# Altium footprint library S2B-PH-SM4-TB.PcbLib: 1 footprints
Each footprint in its own frame and in the unit in brackets; x right, y up, seen from the top. Pads: shape width x height; smd on the part's side, far side on the other; paste and mask are expansions set on the pad; w line width, h text height; cw(c..) or ccw(c..) is an arc to the next point about the centre after c.
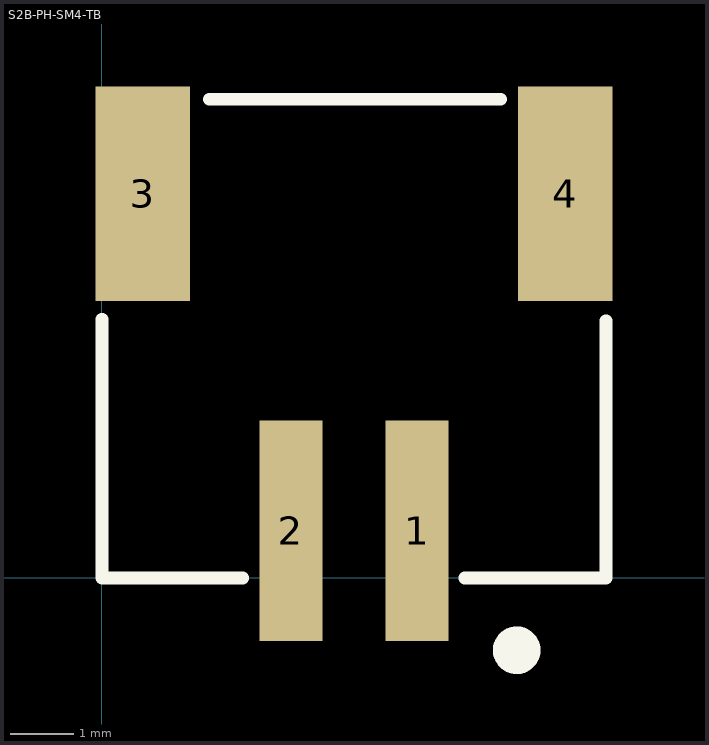
[diagram p0: the footprint, top view; thin cyan lines are the x and y axes]

## S2B-PH-SM4-TB [mm]
pads (4):
  rect 1x3.5 smd: 1(5,0.75) 2(3,0.75)
  rect 1.5x3.4 smd: 3(0.65,6.1) 4(7.35,6.1)
Top Overlay:
  circle w0.4: c6.582,-1.147 r0.178
  lines w0.2: 0,4.104 0,0 2.236,0 ; 1.705,7.6 4,7.6 6.326,7.6 ; 5.756,0 8,0 8,4.084
3D body "User Library-S2B-PH-SM4-TB.step": height 5.5, standoff -0.1, extent 0.025,-0.6 7.925,8